# EAGLE library part SF-MICROSD (library pixhawk2)
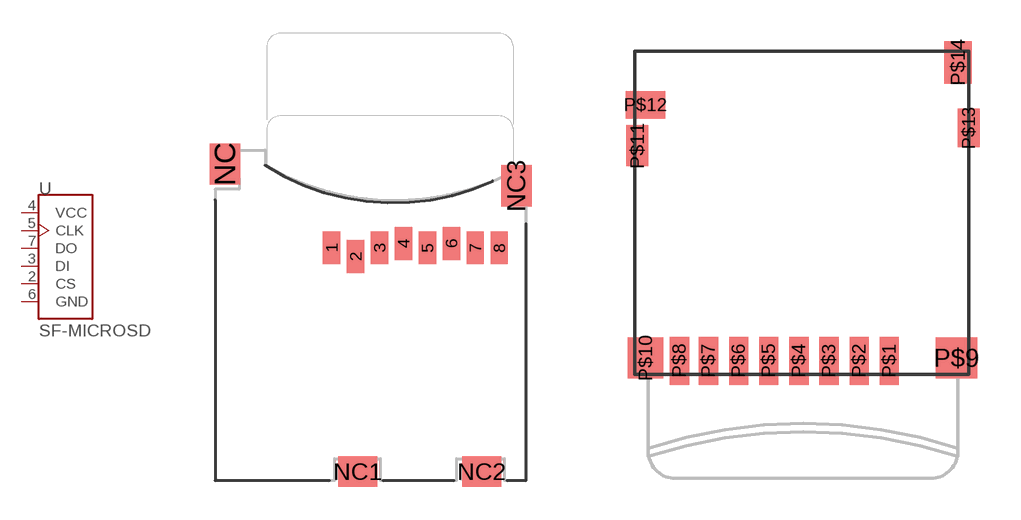
[diagram p10: symbol with the pads of MICROSD; footprints MICROSD, AMPHENOL_114-00841-68]

Designator prefix -

## SF-MICROSD  [MICROSD]
2  CS
3  DI
4  VCC  pas
5  CLK
6  GND  sup
7  DO

## SF-MICROSDAMP-114-00841-68  [AMPHENOL_114-00841-68]
P$2  CS
P$3  DI
P$4  VCC  pas
P$5  CLK
P$6  GND  sup
P$7  DO

## Footprint MICROSD (pad centres in mm)
smd 0.8 x 1.5: 1 -1.94,2.7; 2 -0.84,2.3; 3 0.26,2.7; 4 1.36,2.9; 5 2.46,2.7; 6 3.56,2.9; 7 4.66,2.7; 8 5.76,2.7
smd 1.4 x 1.9: NC -6.85,6.55; NC3 6.55,5.55
smd 1.8 x 1.4: NC1 -0.75,-7.6; NC2 4.95,-7.6

## Footprint AMPHENOL_114-00841-68 (pad centres in mm)
smd 0.7 x 1.75: P$1 7.7,-1; P$2 6.6,-1; P$3 5.5,-1; P$4 4.4,-1; P$5 3.3,-1; P$6 2.2,-1; P$7 1.1,-1; P$8 0.04,-1
smd 1.5 x 1.5: P$9 10.15,-0.9
smd 1.3 x 1.5: P$10 -1.2,-0.9
smd 0.8 x 1.5: P$11 -1.5,6.85
smd 1.45 x 1: P$12 -1.2,8.35
smd 0.8 x 1.4: P$13 10.6,7.5
smd 1 x 1.55: P$14 10.2,9.9